# EAGLE library part 750310167 (library Wurth Electronics Midcom Inc V1-0)
Package Style: Speedy EFD20 Mounting: SMD Pins: 12 pins Bobbin: 070-4275 Windings Primary: Aux: Secondary: 3.3V Secondary: 12V Secondary: 5V Best pinouts for production vary per application. Please contact Wurth Electronics Midcom, Inc. for assistance with your custom design. Datasheet: 750310167 <http://www.we-online.com/web/en/index.php/show/media/passive_components_-_custom_magnetics/pdf_doc_files/spec_sheets/7503/750310167.pdf> Website: Wurth Electronics Midcom <http://www.we-online.com/midcom> Contact us Wurth Electronics Midcom, Inc. 121 Airport Dr. Watertown, SD 57201 Phone: (605) 886-4385 Fax: (605) 886-4486 E-Mail: midcom@we-online.com
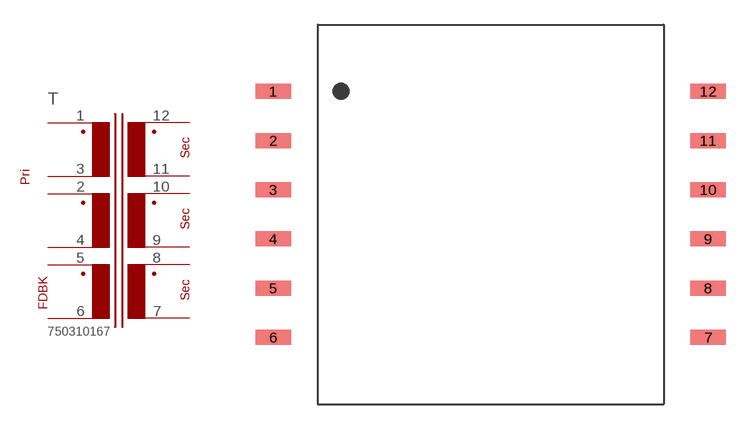
[diagram p52: symbol with the pads of 00SPEEDY_EFD20_SMD_12PIN; footprint 00SPEEDY_EFD20_SMD_12PIN]

Designator prefix T

## 750310167  [00SPEEDY_EFD20_SMD_12PIN]
1  1  pas
2  3  pas
3  2  pas
4  4  pas
5  5  pas
6  6  pas
7  12  pas
8  11  pas
9  10  pas
10  9  pas
11  8  pas
12  7  pas

## Footprint 00SPEEDY_EFD20_SMD_12PIN (pad centres in mm)
Package Style: Speedy EFD20 Mounting: SMD Pins: 12 pins Bobbin: 070-4275
smd 2.159 x 0.914: 1 -13.259,7.493; 2 -13.259,4.496; 3 -13.259,1.499; 4 -13.259,-1.499; 5 -13.259,-4.496; 6 -13.259,-7.493; 7 13.259,-7.493; 8 13.259,-4.496; 9 13.259,-1.499; 10 13.259,1.499; 11 13.259,4.496; 12 13.259,7.493